# Altium schematic symbol library WE-PPTI.SchLib: 100 symbols (part 2 of 2)
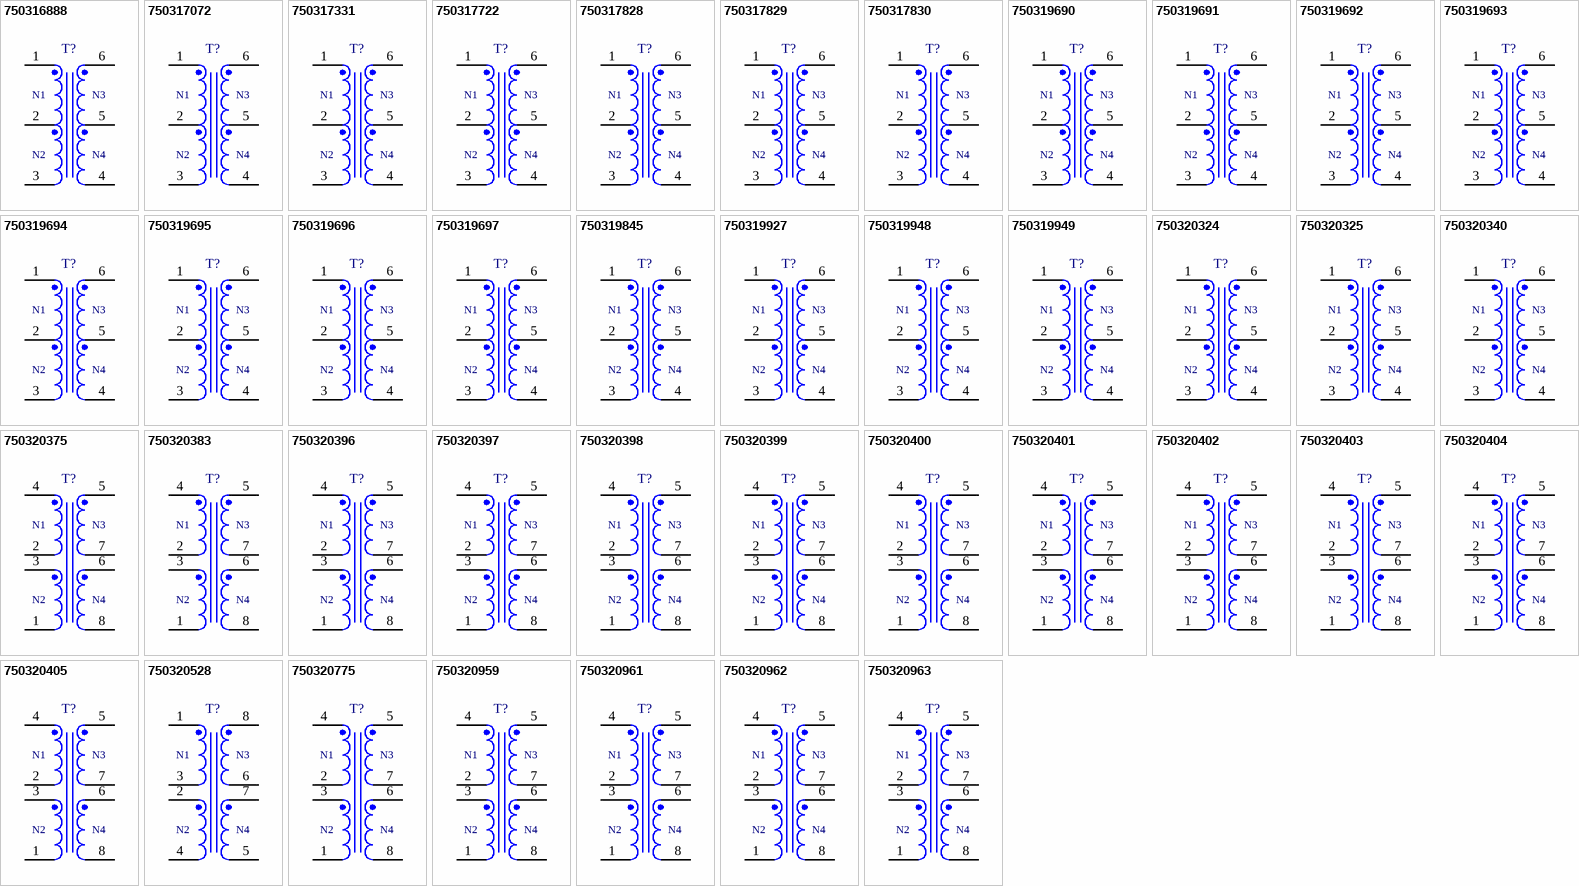
[diagram p3: symbols 750316888 to 750320963]

## 750319695
designator T?  (value not drawn)
WE-PPTI Push-Pull Transformer, SMT, size 1308, 24Vin, 12Vout, 0.5Aout; Manufacturer: Wurth Elektronik; Case/Size Code: 1308; Inductance: 600uH; Input Voltage: 24V (DC); Insulation Test Voltage: 2500V (AC); Output Voltage: 12V (DC); Switching Frequency: 400 - 600kHz; Turns Ratio: 1.75:1; Output Current: 0.5A; Type of Insulation: Functional; Voltage-Time: 36Vus; Manufacturer Part Number: 750319695; Category: Transformers For DC-DC Converter; Match Code: WE-PPTI; ComponentLink1Description: Website Link; ComponentLink1URL: https://www.we-online.com; ComponentLink2Description: Datasheet Link; ComponentLink2URL: https://www.we-online.com/components/products/datasheet/750319695; Mount: Surface Mount; Operating Temperature Min: -40degC; Operating Temperature Max: 125degC; Packaging: Tape and Reel; Length: 13.12mm; Width: 8.5mm; Height: 5.5mm
footprint WE-PPTI_1308
pins: 1, 2, 3, 4, 5, 6
text: N1; N3; N2; N4

## 750319696
designator T?  (value not drawn)
WE-PPTI Push-Pull Transformer, SMT, size 1308, 24Vin, 15Vout, 0.4Aout; Manufacturer: Wurth Elektronik; Case/Size Code: 1308; Inductance: 500uH; Input Voltage: 24V (DC); Insulation Test Voltage: 2500V (AC); Output Voltage: 15V (DC); Switching Frequency: 400 - 600kHz; Turns Ratio: 1.4:1; Output Current: 0.4A; Type of Insulation: Functional; Voltage-Time: 36Vus; Manufacturer Part Number: 750319696; Category: Transformers For DC-DC Converter; Match Code: WE-PPTI; ComponentLink1Description: Website Link; ComponentLink1URL: https://www.we-online.com; ComponentLink2Description: Datasheet Link; ComponentLink2URL: https://www.we-online.com/components/products/datasheet/750319696; Mount: Surface Mount; Operating Temperature Min: -40degC; Operating Temperature Max: 125degC; Packaging: Tape and Reel; Length: 13.12mm; Width: 8.5mm; Height: 5.5mm
footprint WE-PPTI_1308
pins: 1, 2, 3, 4, 5, 6
text: N1; N3; N2; N4

## 750319697
designator T?  (value not drawn)
WE-PPTI Push-Pull Transformer, SMT, size 1308, 24Vin, 24Vout, 0.25Aout; Manufacturer: Wurth Elektronik; Case/Size Code: 1308; Inductance: 500uH; Input Voltage: 24V (DC); Insulation Test Voltage: 2500V (AC); Switching Frequency: 400 - 600kHz; Turns Ratio: 1:1.07; Output Current: 0.25A; Type of Insulation: Functional; Voltage-Time: 36Vus; Manufacturer Part Number: 750319697; Category: Transformers For DC-DC Converter; Match Code: WE-PPTI; ComponentLink1Description: Website Link; ComponentLink1URL: https://www.we-online.com; ComponentLink2Description: Datasheet Link; ComponentLink2URL: https://www.we-online.com/components/products/datasheet/750319697; Mount: Surface Mount; Operating Temperature Min: -40degC; Operating Temperature Max: 125degC; Packaging: Tape and Reel; Length: 13.12mm; Width: 8.5mm; Height: 5.5mm; Output Voltage: 24V (DC)
footprint WE-PPTI_1308
pins: 1, 2, 3, 4, 5, 6
text: N1; N3; N2; N4

## 750319845
designator T?  (value not drawn)
WE-PPTI Push-Pull Transformer, SMT, size 1209, 3.3Vin, 5Vout, 0.65Aout; Manufacturer: Wurth Elektronik; Case/Size Code: 1209; Inductance: 340uH; Input Voltage: 3.3V (DC); Insulation Test Voltage: 5000V (AC); Output Voltage: 5V (DC); Switching Frequency: 250 - 550kHz; Turns Ratio: 1:1.56; Output Current: 0.65A; Type of Insulation: Reinforced; Voltage-Time: 11Vus; Manufacturer Part Number: 750319845; Category: Transformers For DC-DC Converter; Match Code: WE-PPTI; ComponentLink1Description: Website Link; ComponentLink1URL: https://www.we-online.com; ComponentLink2Description: Datasheet Link; ComponentLink2URL: https://www.we-online.com/components/products/datasheet/750319845; Mount: Surface Mount; Operating Temperature Min: -40degC; Operating Temperature Max: 125degC; Packaging: Tape and Reel; Length: 12.7mm; Width: 9.14mm; Height: 7.62mm
footprint WE-PPTI_1209
pins: 1, 2, 3, 4, 5, 6
text: N1; N3; N2; N4

## 750319927
designator T?  (value not drawn)
WE-PPTI Push-Pull Transformer, SMT, size 1512, 4.5Vin, 2.5Vout, 1.7Aout; Manufacturer: Wurth Elektronik; Case/Size Code: 1512; Inductance: 570uH; Input Voltage: 4.5V (DC); Insulation Test Voltage: 5000V (AC); Output Voltage: 2.5V (DC); Switching Frequency: 150 - 700kHz; Turns Ratio: 2:1; Output Current: 1.7A; Type of Insulation: Reinforced; Voltage-Time: 50Vus; Manufacturer Part Number: 750319927; Category: Transformers For DC-DC Converter; Match Code: WE-PPTI; ComponentLink1Description: Website Link; ComponentLink1URL: https://www.we-online.com; ComponentLink2Description: Datasheet Link; ComponentLink2URL: https://www.we-online.com/components/products/datasheet/750319927; Mount: Surface Mount; Operating Temperature Min: -40degC; Operating Temperature Max: 125degC; Packaging: Tape and Reel; Length: 15.41mm; Width: 12.32mm; Height: 11.89mm
footprint WE-PPTI_1512
pins: 1, 2, 3, 4, 5, 6
text: N1; N3; N2; N4

## 750319948
designator T?  (value not drawn)
WE-PPTI Push-Pull Transformer, SMT, size 1308, 24Vin, 30Vout, 0.2Aout; Manufacturer: Wurth Elektronik; Case/Size Code: 1308; Inductance: 600uH; Input Voltage: 24V (DC); Insulation Test Voltage: 2500V (AC); Output Voltage: 30V (DC); Switching Frequency: 400 - 600kHz; Turns Ratio: 1:1.36; Output Current: 0.2A; Type of Insulation: Functional; Voltage-Time: 36Vus; Manufacturer Part Number: 750319948; Category: Transformers For DC-DC Converter; Match Code: WE-PPTI; ComponentLink1Description: Website Link; ComponentLink1URL: https://www.we-online.com; ComponentLink2Description: Datasheet Link; ComponentLink2URL: https://www.we-online.com/components/products/datasheet/750319948; Mount: Surface Mount; Operating Temperature Min: -40degC; Operating Temperature Max: 125degC; Packaging: Tape and Reel; Length: 13.12mm; Width: 8.5mm; Height: 5.5mm
footprint WE-PPTI_1308
pins: 1, 2, 3, 4, 5, 6
text: N1; N3; N2; N4

## 750319949
designator T?  (value not drawn)
WE-PPTI Push-Pull Transformer, SMT, size 1308, 12Vin, 30Vout, 0.25Aout; Manufacturer: Wurth Elektronik; Case/Size Code: 1308; Inductance: 350uH; Input Voltage: 12V (DC); Insulation Test Voltage: 2500V (AC); Output Voltage: 30V (DC); Switching Frequency: 400 - 600kHz; Turns Ratio: 1:2.75; Output Current: 0.25A; Type of Insulation: Functional; Voltage-Time: 30Vus; Manufacturer Part Number: 750319949; Category: Transformers For DC-DC Converter; Match Code: WE-PPTI; ComponentLink1Description: Website Link; ComponentLink1URL: https://www.we-online.com; ComponentLink2Description: Datasheet Link; ComponentLink2URL: https://www.we-online.com/components/products/datasheet/750319949; Mount: Surface Mount; Operating Temperature Min: -40degC; Operating Temperature Max: 125degC; Packaging: Tape and Reel; Length: 13.12mm; Width: 8.5mm; Height: 5.5mm
footprint WE-PPTI_1308
pins: 1, 2, 3, 4, 5, 6
text: N1; N3; N2; N4

## 750320324
designator T?  (value not drawn)
WE-PPTI Push-Pull Transformer, SMT, size 1308, 12Vin, 3.3Vout, 1.1Aout; Manufacturer: Wurth Elektronik; Case/Size Code: 1308; Inductance: 450uH; Input Voltage: 12V (DC); Insulation Test Voltage: 2500V (AC); Output Voltage: 3.3V (DC); Switching Frequency: 400 - 600kHz; Turns Ratio: 2.4:1; Output Current: 1.1A; Type of Insulation: Functional; Voltage-Time: 30Vus; Manufacturer Part Number: 750320324; Category: Transformers For DC-DC Converter; Match Code: WE-PPTI; ComponentLink1Description: Website Link; ComponentLink1URL: https://www.we-online.com; ComponentLink2Description: Datasheet Link; ComponentLink2URL: https://www.we-online.com/components/products/datasheet/750320324; Mount: Surface Mount; Operating Temperature Min: -40degC; Operating Temperature Max: 125degC; Packaging: Tape and Reel; Length: 13.12mm; Width: 8.5mm; Height: 5.5mm
footprint WE-PPTI_1308
pins: 1, 2, 3, 4, 5, 6
text: N1; N3; N2; N4

## 750320325
designator T?  (value not drawn)
WE-PPTI Push-Pull Transformer, SMT, size 1308, 24Vin, 3.3Vout, 1Aout; Manufacturer: Wurth Elektronik; Case/Size Code: 1308; Inductance: 700uH; Input Voltage: 24V (DC); Insulation Test Voltage: 2500V (AC); Output Voltage: 3.3V (DC); Switching Frequency: 400 - 600kHz; Turns Ratio: 5.33:1; Output Current: 1A; Type of Insulation: Functional; Voltage-Time: 40Vus; Manufacturer Part Number: 750320325; Category: Transformers For DC-DC Converter; Match Code: WE-PPTI; ComponentLink1Description: Website Link; ComponentLink1URL: https://www.we-online.com; ComponentLink2Description: Datasheet Link; ComponentLink2URL: https://www.we-online.com/components/products/datasheet/750320325; Mount: Surface Mount; Operating Temperature Min: -40degC; Operating Temperature Max: 125degC; Packaging: Tape and Reel; Length: 13.12mm; Width: 8.5mm; Height: 5.5mm
footprint WE-PPTI_1308
pins: 1, 2, 3, 4, 5, 6
text: N1; N3; N2; N4

## 750320340
designator T?  (value not drawn)
WE-PPTI Push-Pull Transformer, SMT, size 1209, 5Vin, 17Vout, 0.25Aout; Manufacturer: Wurth Elektronik; Case/Size Code: 1209; Inductance: 200uH; Input Voltage: 5V (DC); Insulation Test Voltage: 6000V (AC); Output Voltage: 17V (DC); Switching Frequency: 220 - 700kHz; Turns Ratio: 1:3.5; Output Current: 0.25A; Type of Insulation: Reinforced; Voltage-Time: 16Vus; Manufacturer Part Number: 750320340; Category: Transformers For DC-DC Converter; Match Code: WE-PPTI; ComponentLink1Description: Website Link; ComponentLink1URL: https://www.we-online.com; ComponentLink2Description: Datasheet Link; ComponentLink2URL: https://www.we-online.com/components/products/datasheet/750320340; Mount: Surface Mount; Operating Temperature Min: -40degC; Operating Temperature Max: 125degC; Packaging: Tape and Reel; Length: 12.7mm; Width: 9.14mm; Height: 7.62mm
footprint WE-PPTI_1209
pins: 1, 2, 3, 4, 5, 6
text: N1; N3; N2; N4

## 750320375
designator T?  (value not drawn)
WE-PPTI Push-Pull Transformer, SMT, size EPX6, 24Vin, 15Vout, 0.7Aout; Manufacturer: Wurth Elektronik; Inductance: 200uH; Input Voltage: 24V (DC); Insulation Test Voltage: 2500V (AC); Output Voltage: 15V (DC); Switching Frequency: 300 - 1000kHz; Turns Ratio: 1.36:1; Output Current: 0.7A; Type of Insulation: Functional; Voltage-Time: 124Vus; Manufacturer Part Number: 750320375; Category: Transformers For DC-DC Converter; Match Code: WE-PPTI; ComponentLink1Description: Website Link; ComponentLink1URL: https://www.we-online.com; ComponentLink2Description: Datasheet Link; ComponentLink2URL: https://www.we-online.com/components/products/datasheet/750320375; Mount: Surface Mount; Operating Temperature Min: -40degC; Operating Temperature Max: 125degC; Packaging: Tape and Reel; Case/Size Code: EPX6; Length: 8.6mm; Width: 8.26mm; Height: 9.65mm
footprint WE-PPTI_EPX6
pins: 1, 2, 3, 4, 5, 6, 7, 8
text: N1; N3; N2; N4

## 750320383
designator T?  (value not drawn)
WE-PPTI Push-Pull Transformer, SMT, size EPX6, 24Vin, 30Vout, 0.35Aout; Manufacturer: Wurth Elektronik; Inductance: 750uH; Input Voltage: 24V (DC); Insulation Test Voltage: 2500V (AC); Output Voltage: 30V (DC); Switching Frequency: 200 - 1000kHz; Turns Ratio: 1:1.4; Output Current: 0.35A; Type of Insulation: Functional; Voltage-Time: 124Vus; Manufacturer Part Number: 750320383; Category: Transformers For DC-DC Converter; Match Code: WE-PPTI; ComponentLink1Description: Website Link; ComponentLink1URL: https://www.we-online.com; ComponentLink2Description: Datasheet Link; ComponentLink2URL: https://www.we-online.com/components/products/datasheet/750320383; Mount: Surface Mount; Operating Temperature Min: -40degC; Operating Temperature Max: 125degC; Packaging: Tape and Reel; Case/Size Code: EPX6; Length: 8.6mm; Width: 8.26mm; Height: 9.65mm
footprint WE-PPTI_EPX6
pins: 1, 2, 3, 4, 5, 6, 7, 8
text: N1; N3; N2; N4

## 750320396
designator T?  (value not drawn)
WE-PPTI Push-Pull Transformer, SMT, size EPX6, 12Vin, 3.3Vout, 1.4Aout; Manufacturer: Wurth Elektronik; Inductance: 350uH; Input Voltage: 12V (DC); Insulation Test Voltage: 2500V (AC); Output Voltage: 3.3V (DC); Switching Frequency: 200 - 1000kHz; Turns Ratio: 2.4:1; Output Current: 1.4A; Type of Insulation: Functional; Voltage-Time: 100Vus; Manufacturer Part Number: 750320396; Category: Transformers For DC-DC Converter; Match Code: WE-PPTI; ComponentLink1Description: Website Link; ComponentLink1URL: https://www.we-online.com; ComponentLink2Description: Datasheet Link; ComponentLink2URL: https://www.we-online.com/components/products/datasheet/750320396; Mount: Surface Mount; Operating Temperature Min: -40degC; Operating Temperature Max: 125degC; Packaging: Tape and Reel; Case/Size Code: EPX6; Length: 8.6mm; Width: 8.26mm; Height: 9.65mm
footprint WE-PPTI_EPX6
pins: 1, 2, 3, 4, 5, 6, 7, 8
text: N1; N3; N2; N4

## 750320397
designator T?  (value not drawn)
WE-PPTI Push-Pull Transformer, SMT, size EPX6, 12Vin, 5Vout, 1.3Aout; Manufacturer: Wurth Elektronik; Inductance: 350uH; Input Voltage: 12V (DC); Insulation Test Voltage: 2500V (AC); Output Voltage: 5V (DC); Switching Frequency: 200 - 1000kHz; Turns Ratio: 1.71:1; Output Current: 1.3A; Type of Insulation: Functional; Voltage-Time: 100Vus; Manufacturer Part Number: 750320397; Category: Transformers For DC-DC Converter; Match Code: WE-PPTI; ComponentLink1Description: Website Link; ComponentLink1URL: https://www.we-online.com; ComponentLink2Description: Datasheet Link; ComponentLink2URL: https://www.we-online.com/components/products/datasheet/750320397; Mount: Surface Mount; Operating Temperature Min: -40degC; Operating Temperature Max: 125degC; Packaging: Tape and Reel; Case/Size Code: EPX6; Length: 8.6mm; Width: 8.26mm; Height: 9.65mm
footprint WE-PPTI_EPX6
pins: 1, 2, 3, 4, 5, 6, 7, 8
text: N1; N3; N2; N4

## 750320398
designator T?  (value not drawn)
WE-PPTI Push-Pull Transformer, SMT, size EPX6, 12Vin, 12Vout, 0.75Aout; Manufacturer: Wurth Elektronik; Inductance: 200uH; Input Voltage: 12V (DC); Insulation Test Voltage: 2500V (AC); Switching Frequency: 200 - 1000kHz; Turns Ratio: 1:1.22; Output Current: 0.75A; Type of Insulation: Functional; Voltage-Time: 74Vus; Manufacturer Part Number: 750320398; Category: Transformers For DC-DC Converter; Match Code: WE-PPTI; ComponentLink1Description: Website Link; ComponentLink1URL: https://www.we-online.com; ComponentLink2Description: Datasheet Link; ComponentLink2URL: https://www.we-online.com/components/products/datasheet/750320398; Mount: Surface Mount; Operating Temperature Min: -40degC; Operating Temperature Max: 125degC; Packaging: Tape and Reel; Case/Size Code: EPX6; Length: 8.6mm; Width: 8.26mm; Height: 9.65mm; Output Voltage: 12V (DC)
footprint WE-PPTI_EPX6
pins: 1, 2, 3, 4, 5, 6, 7, 8
text: N1; N3; N2; N4

## 750320399
designator T?  (value not drawn)
WE-PPTI Push-Pull Transformer, SMT, size EPX6, 12Vin, 15Vout, 0.7Aout; Manufacturer: Wurth Elektronik; Inductance: 200uH; Input Voltage: 12V (DC); Insulation Test Voltage: 2500V (AC); Output Voltage: 15V (DC); Switching Frequency: 200 - 1000kHz; Turns Ratio: 1:1.44; Output Current: 0.7A; Type of Insulation: Functional; Voltage-Time: 74Vus; Manufacturer Part Number: 750320399; Category: Transformers For DC-DC Converter; Match Code: WE-PPTI; ComponentLink1Description: Website Link; ComponentLink1URL: https://www.we-online.com; ComponentLink2Description: Datasheet Link; ComponentLink2URL: https://www.we-online.com/components/products/datasheet/750320399; Mount: Surface Mount; Operating Temperature Min: -40degC; Operating Temperature Max: 125degC; Packaging: Tape and Reel; Case/Size Code: EPX6; Length: 8.6mm; Width: 8.26mm; Height: 9.65mm
footprint WE-PPTI_EPX6
pins: 1, 2, 3, 4, 5, 6, 7, 8
text: N1; N3; N2; N4

## 750320400
designator T?  (value not drawn)
WE-PPTI Push-Pull Transformer, SMT, size EPX6, 12Vin, 24Vout, 0.45Aout; Manufacturer: Wurth Elektronik; Inductance: 200uH; Input Voltage: 12V (DC); Insulation Test Voltage: 2500V (AC); Output Voltage: 24V (DC); Switching Frequency: 200 - 1000kHz; Turns Ratio: 1:2.33; Output Current: 0.45A; Type of Insulation: Functional; Voltage-Time: 74Vus; Manufacturer Part Number: 750320400; Category: Transformers For DC-DC Converter; Match Code: WE-PPTI; ComponentLink1Description: Website Link; ComponentLink1URL: https://www.we-online.com; ComponentLink2Description: Datasheet Link; ComponentLink2URL: https://www.we-online.com/components/products/datasheet/750320400; Mount: Surface Mount; Operating Temperature Min: -40degC; Operating Temperature Max: 125degC; Packaging: Tape and Reel; Case/Size Code: EPX6; Length: 8.6mm; Width: 8.26mm; Height: 9.65mm
footprint WE-PPTI_EPX6
pins: 1, 2, 3, 4, 5, 6, 7, 8
text: N1; N3; N2; N4

## 750320401
designator T?  (value not drawn)
WE-PPTI Push-Pull Transformer, SMT, size EPX6, 12Vin, 30Vout, 0.35Aout; Manufacturer: Wurth Elektronik; Inductance: 200uH; Input Voltage: 12V (DC); Insulation Test Voltage: 2500V (AC); Output Voltage: 30V (DC); Switching Frequency: 200 - 1000kHz; Turns Ratio: 1:2.89; Output Current: 0.35A; Type of Insulation: Functional; Voltage-Time: 74Vus; Manufacturer Part Number: 750320401; Category: Transformers For DC-DC Converter; Match Code: WE-PPTI; ComponentLink1Description: Website Link; ComponentLink1URL: https://www.we-online.com; ComponentLink2Description: Datasheet Link; ComponentLink2URL: https://www.we-online.com/components/products/datasheet/750320401; Mount: Surface Mount; Operating Temperature Min: -40degC; Operating Temperature Max: 125degC; Packaging: Tape and Reel; Case/Size Code: EPX6; Length: 8.6mm; Width: 8.26mm; Height: 9.65mm
footprint WE-PPTI_EPX6
pins: 1, 2, 3, 4, 5, 6, 7, 8
text: N1; N3; N2; N4

## 750320402
designator T?  (value not drawn)
WE-PPTI Push-Pull Transformer, SMT, size EPX6, 24Vin, 3.3Vout, 1.6Aout; Manufacturer: Wurth Elektronik; Inductance: 700uH; Input Voltage: 24V (DC); Insulation Test Voltage: 2500V (AC); Output Voltage: 3.3V (DC); Switching Frequency: 200 - 1000kHz; Turns Ratio: 5.33:1; Output Current: 1.6A; Type of Insulation: Functional; Voltage-Time: 130Vus; Manufacturer Part Number: 750320402; Category: Transformers For DC-DC Converter; Match Code: WE-PPTI; ComponentLink1Description: Website Link; ComponentLink1URL: https://www.we-online.com; ComponentLink2Description: Datasheet Link; ComponentLink2URL: https://www.we-online.com/components/products/datasheet/750320402; Mount: Surface Mount; Operating Temperature Min: -40degC; Operating Temperature Max: 125degC; Packaging: Tape and Reel; Case/Size Code: EPX6; Length: 8.6mm; Width: 8.26mm; Height: 9.65mm
footprint WE-PPTI_EPX6
pins: 1, 2, 3, 4, 5, 6, 7, 8
text: N1; N3; N2; N4

## 750320403
designator T?  (value not drawn)
WE-PPTI Push-Pull Transformer, SMT, size EPX6, 24Vin, 5Vout, 1.4Aout; Manufacturer: Wurth Elektronik; Inductance: 750uH; Input Voltage: 24V (DC); Insulation Test Voltage: 2500V (AC); Output Voltage: 5V (DC); Switching Frequency: 200 - 1000kHz; Turns Ratio: 3.6:1; Output Current: 1.4A; Type of Insulation: Functional; Voltage-Time: 150Vus; Manufacturer Part Number: 750320403; Category: Transformers For DC-DC Converter; Match Code: WE-PPTI; ComponentLink1Description: Website Link; ComponentLink1URL: https://www.we-online.com; ComponentLink2Description: Datasheet Link; ComponentLink2URL: https://www.we-online.com/components/products/datasheet/750320403; Mount: Surface Mount; Operating Temperature Min: -40degC; Operating Temperature Max: 125degC; Packaging: Tape and Reel; Case/Size Code: EPX6; Length: 8.6mm; Width: 8.26mm; Height: 9.65mm
footprint WE-PPTI_EPX6
pins: 1, 2, 3, 4, 5, 6, 7, 8
text: N1; N3; N2; N4

## 750320404
designator T?  (value not drawn)
WE-PPTI Push-Pull Transformer, SMT, size EPX6, 24Vin, 12Vout, 0.9Aout; Manufacturer: Wurth Elektronik; Inductance: 600uH; Input Voltage: 24V (DC); Insulation Test Voltage: 2500V (AC); Output Voltage: 12V (DC); Switching Frequency: 200 - 1000kHz; Turns Ratio: 1.78:1; Output Current: 0.9A; Type of Insulation: Functional; Voltage-Time: 132Vus; Manufacturer Part Number: 750320404; Category: Transformers For DC-DC Converter; Match Code: WE-PPTI; ComponentLink1Description: Website Link; ComponentLink1URL: https://www.we-online.com; ComponentLink2Description: Datasheet Link; ComponentLink2URL: https://www.we-online.com/components/products/datasheet/750320404; Mount: Surface Mount; Operating Temperature Min: -40degC; Operating Temperature Max: 125degC; Packaging: Tape and Reel; Case/Size Code: EPX6; Length: 8.6mm; Width: 8.26mm; Height: 9.65mm
footprint WE-PPTI_EPX6
pins: 1, 2, 3, 4, 5, 6, 7, 8
text: N1; N3; N2; N4

## 750320405
designator T?  (value not drawn)
WE-PPTI Push-Pull Transformer, SMT, size EPX6, 24Vin, 24Vout, 0.5Aout; Manufacturer: Wurth Elektronik; Inductance: 600uH; Input Voltage: 24V (DC); Insulation Test Voltage: 2500V (AC); Switching Frequency: 250 - 1200kHz; Turns Ratio: 1:1.13; Output Current: 0.5A; Type of Insulation: Functional; Voltage-Time: 124Vus; Manufacturer Part Number: 750320405; Category: Transformers For DC-DC Converter; Match Code: WE-PPTI; ComponentLink1Description: Website Link; ComponentLink1URL: https://www.we-online.com; ComponentLink2Description: Datasheet Link; ComponentLink2URL: https://www.we-online.com/components/products/datasheet/750320405; Mount: Surface Mount; Operating Temperature Min: -40degC; Operating Temperature Max: 125degC; Packaging: Tape and Reel; Case/Size Code: EPX6; Length: 8.6mm; Width: 8.26mm; Height: 9.65mm; Output Voltage: 24V (DC)
footprint WE-PPTI_EPX6
pins: 1, 2, 3, 4, 5, 6, 7, 8
text: N1; N3; N2; N4

## 750320528
designator T?  (value not drawn)
WE-PPTI Push-Pull Transformer, SMT, size EPX6, 15Vin, 19.5Vout, 0.7Aout; Manufacturer: Wurth Elektronik; Inductance: 165uH; Input Voltage: 15V (DC); Insulation Test Voltage: 2500V (AC); Output Voltage: 19.5V (DC); Switching Frequency: 250 - 600kHz; Turns Ratio: 1:1.38; Output Current: 0.7A; Type of Insulation: Functional; Voltage-Time: 50Vus; Manufacturer Part Number: 750320528; Category: Transformers For DC-DC Converter; Match Code: WE-PPTI; ComponentLink1Description: Website Link; ComponentLink1URL: https://www.we-online.com; ComponentLink2Description: Datasheet Link; ComponentLink2URL: https://www.we-online.com/components/products/datasheet/750320528; Mount: Surface Mount; Operating Temperature Min: -40degC; Operating Temperature Max: 125degC; Packaging: Tape and Reel; Case/Size Code: EPX6; Length: 8.6mm; Width: 8.26mm; Height: 9.65mm
footprint WE-PPTI_EPX6
pins: 1, 2, 3, 4, 5, 6, 7, 8
text: N1; N3; N2; N4

## 750320775
designator T?  (value not drawn)
WE-PPTI Push-Pull Transformer, SMT, size EP7 HV, 24Vin, 18Vout, 0.7Aout; Manufacturer: Wurth Elektronik; Case/Size Code: EP7 HV; Inductance: 300uH; Input Voltage: 24V (DC); Insulation Test Voltage: 4000V (AC); Output Voltage: 18V (DC); Switching Frequency: 400 - 1000kHz; Turns Ratio: 1.2:1; Output Current: 0.7A; Voltage-Time: 60Vus; Manufacturer Part Number: 750320775; Category: Transformers For DC-DC Converter; Match Code: WE-PPTI; ComponentLink1Description: Website Link; ComponentLink1URL: https://www.we-online.com; ComponentLink2Description: Datasheet Link; ComponentLink2URL: https://www.we-online.com/components/products/datasheet/750320775; Mount: Surface Mount; Operating Temperature Min: -40degC; Operating Temperature Max: 125degC; Packaging: Tape and Reel; Length: 11.46mm; Width: 13.4mm; Height: 11.94mm
footprint WE-PPTI_EP7 HV
pins: 1, 2, 3, 4, 5, 6, 7, 8
text: N1; N3; N2; N4

## 750320959
designator T?  (value not drawn)
WE-PPTI Push-Pull Transformer, SMT, size EP7 HV, 12Vin, 3.3Vout, 1Aout; Manufacturer: Wurth Elektronik; Case/Size Code: EP7 HV; Inductance: 150uH; Input Voltage: 12V (DC); Insulation Test Voltage: 4000V (AC); Output Voltage: 3.3V (DC); Switching Frequency: 400 - 1000kHz; Turns Ratio: 2.25:1; Output Current: 1A; Voltage-Time: 54Vus; Manufacturer Part Number: 750320959; Category: Transformers For DC-DC Converter; Match Code: WE-PPTI; ComponentLink1Description: Website Link; ComponentLink1URL: https://www.we-online.com; ComponentLink2Description: Datasheet Link; ComponentLink2URL: https://www.we-online.com/components/products/datasheet/750320959; Mount: Surface Mount; Operating Temperature Min: -40degC; Operating Temperature Max: 125degC; Packaging: Tape and Reel; Length: 11.46mm; Width: 13.4mm; Height: 11.94mm
footprint WE-PPTI_EP7 HV
pins: 1, 2, 3, 4, 5, 6, 7, 8
text: N1; N3; N2; N4

## 750320961
designator T?  (value not drawn)
WE-PPTI Push-Pull Transformer, SMT, size EP7 HV, 12Vin, 12Vout, 0.75Aout; Manufacturer: Wurth Elektronik; Case/Size Code: EP7 HV; Inductance: 100uH; Input Voltage: 12V (DC); Insulation Test Voltage: 4000V (AC); Switching Frequency: 400 - 1000kHz; Turns Ratio: 1:1.14; Output Current: 0.75A; Type of Insulation: Basic; Voltage-Time: 42Vus; Manufacturer Part Number: 750320961; Category: Transformers For DC-DC Converter; Match Code: WE-PPTI; ComponentLink1Description: Website Link; ComponentLink1URL: https://www.we-online.com; ComponentLink2Description: Datasheet Link; ComponentLink2URL: https://www.we-online.com/components/products/datasheet/750320961; Mount: Surface Mount; Operating Temperature Min: -40degC; Operating Temperature Max: 125degC; Packaging: Tape and Reel; Length: 11.46mm; Width: 13.44mm; Height: 11.94mm; Output Voltage: 12V (DC)
footprint WE-PPTI_EP7 HV
pins: 1, 2, 3, 4, 5, 6, 7, 8
text: N1; N3; N2; N4

## 750320962
designator T?  (value not drawn)
WE-PPTI Push-Pull Transformer, SMT, size EP7 HV, 12Vin, 15Vout, 0.7Aout; Manufacturer: Wurth Elektronik; Case/Size Code: EP7 HV; Inductance: 100uH; Input Voltage: 12V (DC); Insulation Test Voltage: 4000V (AC); Output Voltage: 15V (DC); Switching Frequency: 400 - 1000kHz; Turns Ratio: 1:1.43; Output Current: 0.7A; Voltage-Time: 42Vus; Manufacturer Part Number: 750320962; Category: Transformers For DC-DC Converter; Match Code: WE-PPTI; ComponentLink1Description: Website Link; ComponentLink1URL: https://www.we-online.com; ComponentLink2Description: Datasheet Link; ComponentLink2URL: https://www.we-online.com/components/products/datasheet/750320962; Mount: Surface Mount; Operating Temperature Min: -40degC; Operating Temperature Max: 125degC; Packaging: Tape and Reel; Length: 11.46mm; Width: 13.4mm; Height: 11.94mm
footprint WE-PPTI_EP7 HV
pins: 1, 2, 3, 4, 5, 6, 7, 8
text: N1; N3; N2; N4

## 750320963
designator T?  (value not drawn)
WE-PPTI Push-Pull Transformer, SMT, size EP7 HV, 12Vin, 18Vout, 0.65Aout; Manufacturer: Wurth Elektronik; Case/Size Code: EP7 HV; Inductance: 100uH; Input Voltage: 12V (DC); Insulation Test Voltage: 4000V (AC); Output Voltage: 18V (DC); Switching Frequency: 400 - 1000kHz; Turns Ratio: 1:1.71; Output Current: 0.65A; Voltage-Time: 42Vus; Manufacturer Part Number: 750320963; Category: Transformers For DC-DC Converter; Match Code: WE-PPTI; ComponentLink1Description: Website Link; ComponentLink1URL: https://www.we-online.com; ComponentLink2Description: Datasheet Link; ComponentLink2URL: https://www.we-online.com/components/products/datasheet/750320963; Mount: Surface Mount; Operating Temperature Min: -40degC; Operating Temperature Max: 125degC; Packaging: Tape and Reel; Length: 11.64mm; Width: 13.4mm; Height: 11.94mm
footprint WE-PPTI_EP7 HV
pins: 1, 2, 3, 4, 5, 6, 7, 8
text: N1; N3; N2; N4

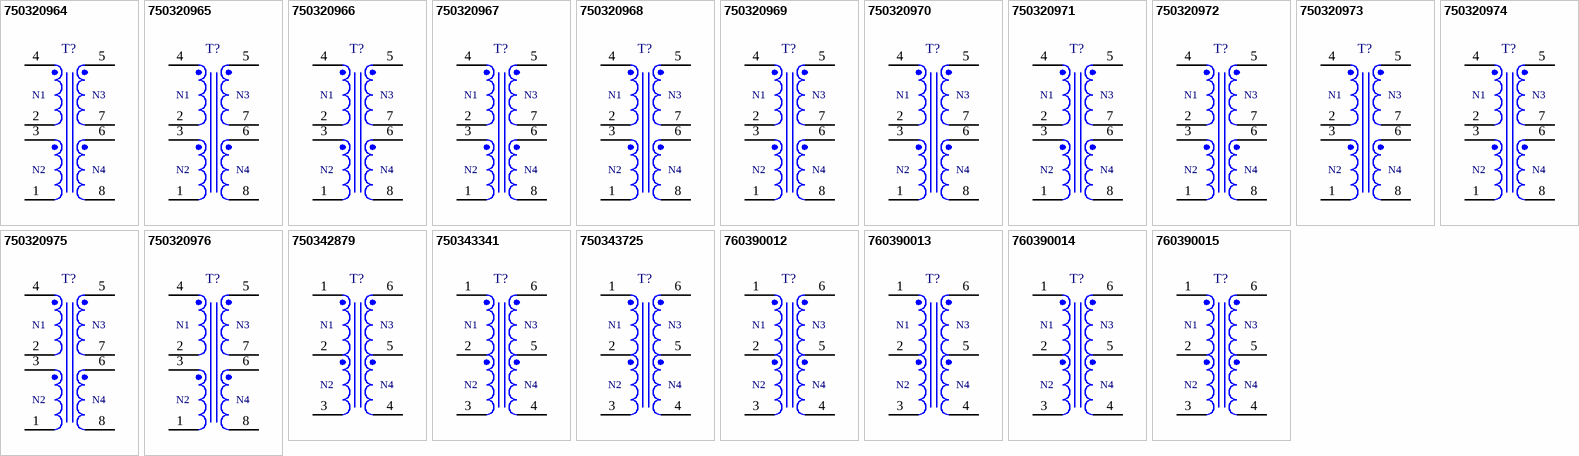
[diagram p2: symbols 750320964 to 760390015]

## 750320964
designator T?  (value not drawn)
WE-PPTI Push-Pull Transformer, SMT, size EP7 HV, 12Vin, 21Vout, 0.45Aout; Manufacturer: Wurth Elektronik; Case/Size Code: EP7 HV; Inductance: 100uH; Input Voltage: 12V (DC); Insulation Test Voltage: 4000V (AC); Output Voltage: 21V (DC); Switching Frequency: 400 - 1000kHz; Turns Ratio: 1:2; Output Current: 0.45A; Voltage-Time: 42Vus; Manufacturer Part Number: 750320964; Category: Transformers For DC-DC Converter; Match Code: WE-PPTI; ComponentLink1Description: Website Link; ComponentLink1URL: https://www.we-online.com; ComponentLink2Description: Datasheet Link; ComponentLink2URL: https://www.we-online.com/components/products/datasheet/750320964; Mount: Surface Mount; Operating Temperature Min: -40degC; Operating Temperature Max: 125degC; Packaging: Tape and Reel; Length: 11.46mm; Width: 13.4mm; Height: 11.94mm
footprint WE-PPTI_EP7 HV
pins: 1, 2, 3, 4, 5, 6, 7, 8
text: N1; N3; N2; N4

## 750320965
designator T?  (value not drawn)
WE-PPTI Push-Pull Transformer, SMT, size EP7 HV, 12Vin, 24Vout, 0.45Aout; Manufacturer: Wurth Elektronik; Case/Size Code: EP7 HV; Inductance: 100uH; Input Voltage: 12V (DC); Insulation Test Voltage: 4000V (AC); Output Voltage: 24V (DC); Switching Frequency: 400 - 1000kHz; Turns Ratio: 1:2.29; Output Current: 0.45A; Voltage-Time: 42Vus; Manufacturer Part Number: 750320965; Category: Transformers For DC-DC Converter; Match Code: WE-PPTI; ComponentLink1Description: Website Link; ComponentLink1URL: https://www.we-online.com; ComponentLink2Description: Datasheet Link; ComponentLink2URL: https://www.we-online.com/components/products/datasheet/750320965; Mount: Surface Mount; Operating Temperature Min: -40degC; Operating Temperature Max: 125degC; Packaging: Tape and Reel; Length: 11.46mm; Width: 13.4mm; Height: 11.94mm
footprint WE-PPTI_EP7 HV
pins: 1, 2, 3, 4, 5, 6, 7, 8
text: N1; N3; N2; N4

## 750320966
designator T?  (value not drawn)
WE-PPTI Push-Pull Transformer, SMT, size EP7 HV, 12Vin, 27Vout, 0.45Aout; Manufacturer: Wurth Elektronik; Case/Size Code: EP7 HV; Inductance: 80uH; Input Voltage: 12V (DC); Insulation Test Voltage: 4000V (AC); Output Voltage: 27V (DC); Switching Frequency: 400 - 1000kHz; Turns Ratio: 1:2.5; Output Current: 0.45A; Voltage-Time: 36Vus; Manufacturer Part Number: 750320966; Category: Transformers For DC-DC Converter; Match Code: WE-PPTI; ComponentLink1Description: Website Link; ComponentLink1URL: https://www.we-online.com; ComponentLink2Description: Datasheet Link; ComponentLink2URL: https://www.we-online.com/components/products/datasheet/750320966; Mount: Surface Mount; Operating Temperature Min: -40degC; Operating Temperature Max: 125degC; Packaging: Tape and Reel; Length: 11.46mm; Width: 13.4mm; Height: 11.94mm
footprint WE-PPTI_EP7 HV
pins: 1, 2, 3, 4, 5, 6, 7, 8
text: N1; N3; N2; N4

## 750320967
designator T?  (value not drawn)
WE-PPTI Push-Pull Transformer, SMT, size EP7 HV, 12Vin, 30Vout, 0.35Aout; Manufacturer: Wurth Elektronik; Case/Size Code: EP7 HV; Inductance: 100uH; Input Voltage: 12V (DC); Insulation Test Voltage: 4000V (AC); Output Voltage: 30V (DC); Switching Frequency: 400 - 1000kHz; Turns Ratio: 1:2.71; Output Current: 0.35A; Voltage-Time: 42Vus; Manufacturer Part Number: 750320967; Category: Transformers For DC-DC Converter; Match Code: WE-PPTI; ComponentLink1Description: Website Link; ComponentLink1URL: https://www.we-online.com; ComponentLink2Description: Datasheet Link; ComponentLink2URL: https://www.we-online.com/components/products/datasheet/750320967; Mount: Surface Mount; Operating Temperature Min: -40degC; Operating Temperature Max: 125degC; Packaging: Tape and Reel; Length: 11.46mm; Width: 13.4mm; Height: 11.94mm
footprint WE-PPTI_EP7 HV
pins: 1, 2, 3, 4, 5, 6, 7, 8
text: N1; N3; N2; N4

## 750320968
designator T?  (value not drawn)
WE-PPTI Push-Pull Transformer, SMT, size EP7 HV, 24Vin, 3.3Vout, 1.3Aout; Manufacturer: Wurth Elektronik; Case/Size Code: EP7 HV; Inductance: 370uH; Input Voltage: 24V (DC); Insulation Test Voltage: 4000V (AC); Output Voltage: 3.3V (DC); Switching Frequency: 400 - 1000kHz; Turns Ratio: 4.67:1; Output Current: 1.3A; Type of Insulation: Basic; Voltage-Time: 86Vus; Manufacturer Part Number: 750320968; Category: Transformers For DC-DC Converter; Match Code: WE-PPTI; ComponentLink1Description: Website Link; ComponentLink1URL: https://www.we-online.com; ComponentLink2Description: Datasheet Link; ComponentLink2URL: https://www.we-online.com/components/products/datasheet/750320968; Mount: Surface Mount; Operating Temperature Min: -40degC; Operating Temperature Max: 125degC; Packaging: Tape and Reel; Length: 11.46mm; Width: 13.4mm; Height: 11.94mm
footprint WE-PPTI_EP7 HV
pins: 1, 2, 3, 4, 5, 6, 7, 8
text: N1; N3; N2; N4

## 750320969
designator T?  (value not drawn)
WE-PPTI Push-Pull Transformer, SMT, size EP7 HV, 24Vin, 5Vout, 1.2Aout; Manufacturer: Wurth Elektronik; Case/Size Code: EP7 HV; Inductance: 490uH; Input Voltage: 24V (DC); Insulation Test Voltage: 4000V (AC); Output Voltage: 5V (DC); Switching Frequency: 400 - 1000kHz; Turns Ratio: 3.75:1; Output Current: 1.2A; Voltage-Time: 92Vus; Manufacturer Part Number: 750320969; Category: Transformers For DC-DC Converter; Match Code: WE-PPTI; ComponentLink1Description: Website Link; ComponentLink1URL: https://www.we-online.com; ComponentLink2Description: Datasheet Link; ComponentLink2URL: https://www.we-online.com/components/products/datasheet/750320969; Mount: Surface Mount; Operating Temperature Min: -40degC; Operating Temperature Max: 125degC; Packaging: Tape and Reel; Length: 11.46mm; Width: 13.4mm; Height: 11.94mm
footprint WE-PPTI_EP7 HV
pins: 1, 2, 3, 4, 5, 6, 7, 8
text: N1; N3; N2; N4

## 750320970
designator T?  (value not drawn)
WE-PPTI Push-Pull Transformer, SMT, size EP7 HV, 24Vin, 12Vout, 0.85Aout; Manufacturer: Wurth Elektronik; Case/Size Code: EP7 HV; Inductance: 430uH; Input Voltage: 24V (DC); Insulation Test Voltage: 4000V (AC); Output Voltage: 12V (DC); Switching Frequency: 400 - 1000kHz; Turns Ratio: 1.75:1; Output Current: 0.85A; Type of Insulation: Basic/Reinforced; Voltage-Time: 86Vus; Manufacturer Part Number: 750320970; Category: Transformers For DC-DC Converter; Match Code: WE-PPTI; ComponentLink1Description: Website Link; ComponentLink1URL: https://www.we-online.com; ComponentLink2Description: Datasheet Link; ComponentLink2URL: https://www.we-online.com/components/products/datasheet/750320970; Mount: Surface Mount; Operating Temperature Min: -40degC; Operating Temperature Max: 125degC; Packaging: Tape and Reel; Length: 11.46mm; Width: 13.4mm; Height: 11.94mm
footprint WE-PPTI_EP7 HV
pins: 1, 2, 3, 4, 5, 6, 7, 8
text: N1; N3; N2; N4

## 750320971
designator T?  (value not drawn)
WE-PPTI Push-Pull Transformer, SMT, size EP7 HV, 24Vin, 15Vout, 0.8Aout; Manufacturer: Wurth Elektronik; Case/Size Code: EP7 HV; Inductance: 430uH; Input Voltage: 24V (DC); Insulation Test Voltage: 4000V (AC); Output Voltage: 15V (DC); Switching Frequency: 400 - 1000kHz; Turns Ratio: 1.4:1; Output Current: 0.8A; Voltage-Time: 86Vus; Manufacturer Part Number: 750320971; Category: Transformers For DC-DC Converter; Match Code: WE-PPTI; ComponentLink1Description: Website Link; ComponentLink1URL: https://www.we-online.com; ComponentLink2Description: Datasheet Link; ComponentLink2URL: https://www.we-online.com/components/products/datasheet/750320971; Mount: Surface Mount; Operating Temperature Min: -40degC; Operating Temperature Max: 125degC; Packaging: Tape and Reel; Length: 11.46mm; Width: 13.4mm; Height: 11.94mm
footprint WE-PPTI_EP7 HV
pins: 1, 2, 3, 4, 5, 6, 7, 8
text: N1; N3; N2; N4

## 750320972
designator T?  (value not drawn)
WE-PPTI Push-Pull Transformer, SMT, size EP7 HV, 24Vin, 19Vout, 0.6Aout; Manufacturer: Wurth Elektronik; Case/Size Code: EP7 HV; Inductance: 420uH; Input Voltage: 24V (DC); Insulation Test Voltage: 4000V (AC); Output Voltage: 19V (DC); Switching Frequency: 400 - 1000kHz; Turns Ratio: 1.17:1; Output Current: 0.6A; Voltage-Time: 86Vus; Manufacturer Part Number: 750320972; Category: Transformers For DC-DC Converter; Match Code: WE-PPTI; ComponentLink1Description: Website Link; ComponentLink1URL: https://www.we-online.com; ComponentLink2Description: Datasheet Link; ComponentLink2URL: https://www.we-online.com/components/products/datasheet/750320972; Mount: Surface Mount; Operating Temperature Min: -40degC; Operating Temperature Max: 125degC; Packaging: Tape and Reel; Length: 11.46mm; Width: 13.4mm; Height: 11.94mm
footprint WE-PPTI_EP7 HV
pins: 1, 2, 3, 4, 5, 6, 7, 8
text: N1; N3; N2; N4

## 750320973
designator T?  (value not drawn)
WE-PPTI Push-Pull Transformer, SMT, size EP7 HV, 24Vin, 21Vout, 0.6Aout; Manufacturer: Wurth Elektronik; Case/Size Code: EP7 HV; Inductance: 315uH; Input Voltage: 24V (DC); Insulation Test Voltage: 4000V (AC); Output Voltage: 21V (DC); Switching Frequency: 400 - 1000kHz; Turns Ratio: 1:1; Output Current: 0.6A; Voltage-Time: 74Vus; Manufacturer Part Number: 750320973; Category: Transformers For DC-DC Converter; Match Code: WE-PPTI; ComponentLink1Description: Website Link; ComponentLink1URL: https://www.we-online.com; ComponentLink2Description: Datasheet Link; ComponentLink2URL: https://www.we-online.com/components/products/datasheet/750320973; Mount: Surface Mount; Operating Temperature Min: -40degC; Operating Temperature Max: 125degC; Packaging: Tape and Reel; Length: 11.46mm; Width: 13.4mm; Height: 11.94mm
footprint WE-PPTI_EP7 HV
pins: 1, 2, 3, 4, 5, 6, 7, 8
text: N1; N3; N2; N4

## 750320974
designator T?  (value not drawn)
WE-PPTI Push-Pull Transformer, SMT, size EP7 HV, 24Vin, 24Vout, 0.55Aout; Manufacturer: Wurth Elektronik; Case/Size Code: EP7 HV; Inductance: 430uH; Input Voltage: 24V (DC); Insulation Test Voltage: 4000V (AC); Switching Frequency: 400 - 1000kHz; Turns Ratio: 1:1.07; Output Current: 0.55A; Voltage-Time: 86Vus; Manufacturer Part Number: 750320974; Category: Transformers For DC-DC Converter; Match Code: WE-PPTI; ComponentLink1Description: Website Link; ComponentLink1URL: https://www.we-online.com; ComponentLink2Description: Datasheet Link; ComponentLink2URL: https://www.we-online.com/components/products/datasheet/750320974; Mount: Surface Mount; Operating Temperature Min: -40degC; Operating Temperature Max: 125degC; Packaging: Tape and Reel; Length: 11.46mm; Width: 13.4mm; Height: 11.94mm; Output Voltage: 24V (DC)
footprint WE-PPTI_EP7 HV
pins: 1, 2, 3, 4, 5, 6, 7, 8
text: N1; N3; N2; N4

## 750320975
designator T?  (value not drawn)
WE-PPTI Push-Pull Transformer, SMT, size EP7 HV, 24Vin, 27Vout, 0.5Aout; Manufacturer: Wurth Elektronik; Case/Size Code: EP7 HV; Inductance: 315uH; Input Voltage: 24V (DC); Insulation Test Voltage: 4000V (AC); Output Voltage: 27V (DC); Switching Frequency: 400 - 1000kHz; Turns Ratio: 1:1.25; Output Current: 0.5A; Voltage-Time: 74Vus; Manufacturer Part Number: 750320975; Category: Transformers For DC-DC Converter; Match Code: WE-PPTI; ComponentLink1Description: Website Link; ComponentLink1URL: https://www.we-online.com; ComponentLink2Description: Datasheet Link; ComponentLink2URL: https://www.we-online.com/components/products/datasheet/750320975; Mount: Surface Mount; Operating Temperature Min: -40degC; Operating Temperature Max: 125degC; Packaging: Tape and Reel; Length: 11.46mm; Width: 13.4mm; Height: 11.94mm
footprint WE-PPTI_EP7 HV
pins: 1, 2, 3, 4, 5, 6, 7, 8
text: N1; N3; N2; N4

## 750320976
designator T?  (value not drawn)
WE-PPTI Push-Pull Transformer, SMT, size EP7 HV, 24Vin, 30Vout, 0.45Aout; Manufacturer: Wurth Elektronik; Case/Size Code: EP7 HV; Inductance: 300uH; Input Voltage: 24V (DC); Insulation Test Voltage: 4000V (AC); Output Voltage: 30V (DC); Switching Frequency: 400 - 1000kHz; Turns Ratio: 1:1.33; Output Current: 0.45A; Type of Insulation: Basic; Voltage-Time: 74Vus; Manufacturer Part Number: 750320976; Category: Transformers For DC-DC Converter; Match Code: WE-PPTI; ComponentLink1Description: Website Link; ComponentLink1URL: https://www.we-online.com; ComponentLink2Description: Datasheet Link; ComponentLink2URL: https://www.we-online.com/components/products/datasheet/750320976; Mount: Surface Mount; Operating Temperature Min: -40degC; Operating Temperature Max: 125degC; Packaging: Tape and Reel; Length: 11.46mm; Width: 13.4mm; Height: 11.94mm
footprint WE-PPTI_EP7 HV
pins: 1, 2, 3, 4, 5, 6, 7, 8
text: N1; N3; N2; N4

## 750342879
designator T?  (value not drawn)
WE-PPTI Push-Pull Transformer, SMT, size 1209, 5Vin, 17Vout, 0.25Aout; Manufacturer: Wurth Elektronik; Case/Size Code: 1209; Inductance: 200uH; Input Voltage: 5V (DC); Insulation Test Voltage: 5000V (AC); Output Voltage: 17V (DC); Switching Frequency: 420 - 700kHz; Turns Ratio: 1:3.5; Output Current: 0.25A; Type of Insulation: Reinforced; Voltage-Time: 9Vus; Manufacturer Part Number: 750342879; Category: Transformers For DC-DC Converter; Match Code: WE-PPTI; ComponentLink1Description: Website Link; ComponentLink1URL: https://www.we-online.com; ComponentLink2Description: Datasheet Link; ComponentLink2URL: https://www.we-online.com/components/products/datasheet/750342879; Mount: Surface Mount; Operating Temperature Min: -40degC; Operating Temperature Max: 125degC; Packaging: Tape and Reel; Length: 12.7mm; Width: 9.14mm; Height: 7.62mm
footprint WE-PPTI_1209
pins: 1, 2, 3, 4, 5, 6
text: N1; N3; N2; N4

## 750343341
designator T?  (value not drawn)
WE-PPTI Push-Pull Transformer, SMT, size 1209, 5Vin, 12.5Vout, 0.35Aout; Manufacturer: Wurth Elektronik; Case/Size Code: 1209; Inductance: 152uH; Input Voltage: 5V (DC); Insulation Test Voltage: 5000V (AC); Output Voltage: 12.5V (DC); Switching Frequency: 400 - 700kHz; Turns Ratio: 1:2.6; Output Current: 0.35A; Type of Insulation: Reinforced; Voltage-Time: 7.8Vus; Manufacturer Part Number: 750343341; Category: Transformers For DC-DC Converter; Match Code: WE-PPTI; ComponentLink1Description: Website Link; ComponentLink1URL: https://www.we-online.com; ComponentLink2Description: Datasheet Link; ComponentLink2URL: https://www.we-online.com/components/products/datasheet/750343341; Mount: Surface Mount; Operating Temperature Min: -40degC; Operating Temperature Max: 125degC; Packaging: Tape and Reel; Length: 12.7mm; Width: 9.14mm; Height: 7.62mm
footprint WE-PPTI_1209
pins: 1, 2, 3, 4, 5, 6
text: N1; N3; N2; N4

## 750343725
designator T?  (value not drawn)
WE-PPTI Push-Pull Transformer, SMT, size 1209, 5Vin, 19.5Vout, 0.25Aout; Manufacturer: Wurth Elektronik; Case/Size Code: 1209; Inductance: 250uH; Input Voltage: 5V (DC); Insulation Test Voltage: 5000V (AC); Output Voltage: 19.5V (DC); Switching Frequency: 420 - 700kHz; Turns Ratio: 1:3.9; Output Current: 0.25A; Type of Insulation: Reinforced; Voltage-Time: 9Vus; Manufacturer Part Number: 750343725; Category: Transformers For DC-DC Converter; Match Code: WE-PPTI; ComponentLink1Description: Website Link; ComponentLink1URL: https://www.we-online.com; ComponentLink2Description: Datasheet Link; ComponentLink2URL: https://www.we-online.com/components/products/datasheet/750343725; Mount: Surface Mount; Operating Temperature Min: -40degC; Operating Temperature Max: 125degC; Packaging: Tape and Reel; Length: 12.7mm; Width: 9.14mm; Height: 7.62mm
footprint WE-PPTI_1209
pins: 1, 2, 3, 4, 5, 6
text: N1; N3; N2; N4

## 760390012
designator T?  (value not drawn)
WE-PPTI Push-Pull Transformer, SMT, size 1006, 5Vin, 5Vout, 0.75Aout; Manufacturer: Wurth Elektronik; Case/Size Code: 1006; Inductance: 475uH; Input Voltage: 5V (DC); Insulation Test Voltage: 2500V (AC); Switching Frequency: 300 - 620kHz; Turns Ratio: 1:1.1; Output Current: 0.75A; Type of Insulation: Functional; Voltage-Time: 11Vus; Manufacturer Part Number: 760390012; Category: Transformers For DC-DC Converter; Match Code: WE-PPTI; ComponentLink1Description: Website Link; ComponentLink1URL: https://www.we-online.com; ComponentLink2Description: Datasheet Link; ComponentLink2URL: https://www.we-online.com/components/products/datasheet/760390012; Mount: Surface Mount; Operating Temperature Min: -40degC; Operating Temperature Max: 125degC; Packaging: Tape and Reel; Length: 10.2mm; Width: 6.73mm; Height: 4.19mm; Output Voltage: 5V (DC)
footprint WE-PPTI_1006_L10.2W6.73H4.19
pins: 1, 2, 3, 4, 5, 6
text: N1; N3; N2; N4

## 760390013
designator T?  (value not drawn)
WE-PPTI Push-Pull Transformer, SMT, size 1006, 3.3Vin, 5Vout, 0.5Aout; Manufacturer: Wurth Elektronik; Case/Size Code: 1006; Inductance: 475uH; Input Voltage: 3.3V (DC); Insulation Test Voltage: 2500V (AC); Output Voltage: 5V (DC); Switching Frequency: 250 - 550kHz; Turns Ratio: 1:1.7; Output Current: 0.5A; Type of Insulation: Functional; Voltage-Time: 11Vus; Manufacturer Part Number: 760390013; Category: Transformers For DC-DC Converter; Match Code: WE-PPTI; ComponentLink1Description: Website Link; ComponentLink1URL: https://www.we-online.com; ComponentLink2Description: Datasheet Link; ComponentLink2URL: https://www.we-online.com/components/products/datasheet/760390013; Mount: Surface Mount; Operating Temperature Min: -40degC; Operating Temperature Max: 125degC; Packaging: Tape and Reel; Length: 10.2mm; Width: 6.73mm; Height: 4.19mm
footprint WE-PPTI_1006_L10.2W6.73H4.19
pins: 1, 2, 3, 4, 5, 6
text: N1; N3; N2; N4

## 760390014
designator T?  (value not drawn)
WE-PPTI Push-Pull Transformer, SMT, size 1006, 5Vin, 5Vout, 0.6Aout; Manufacturer: Wurth Elektronik; Case/Size Code: 1006; Inductance: 475uH; Input Voltage: 5V (DC); Insulation Test Voltage: 2500V (AC); Switching Frequency: 300 - 620kHz; Turns Ratio: 1:1.3; Output Current: 0.6A; Type of Insulation: Functional; Voltage-Time: 11Vus; Manufacturer Part Number: 760390014; Category: Transformers For DC-DC Converter; Match Code: WE-PPTI; ComponentLink1Description: Website Link; ComponentLink1URL: https://www.we-online.com; ComponentLink2Description: Datasheet Link; ComponentLink2URL: https://www.we-online.com/components/products/datasheet/760390014; Mount: Surface Mount; Operating Temperature Min: -40degC; Operating Temperature Max: 125degC; Packaging: Tape and Reel; Length: 10.2mm; Width: 6.73mm; Height: 4.19mm; Output Voltage: 5V (DC)
footprint WE-PPTI_1006_L10.2W6.73H4.19
pins: 1, 2, 3, 4, 5, 6
text: N1; N3; N2; N4

## 760390015
designator T?  (value not drawn)
WE-PPTI Push-Pull Transformer, SMT, size 1006, 3.3Vin, 5Vout, 0.45Aout; Manufacturer: Wurth Elektronik; Case/Size Code: 1006; Inductance: 475uH; Input Voltage: 3.3V (DC); Insulation Test Voltage: 2500V (AC); Output Voltage: 5V (DC); Switching Frequency: 250 - 550kHz; Turns Ratio: 1:2; Output Current: 0.45A; Type of Insulation: Functional; Voltage-Time: 11Vus; Manufacturer Part Number: 760390015; Category: Transformers For DC-DC Converter; Match Code: WE-PPTI; ComponentLink1Description: Website Link; ComponentLink1URL: https://www.we-online.com; ComponentLink2Description: Datasheet Link; ComponentLink2URL: https://www.we-online.com/components/products/datasheet/760390015; Mount: Surface Mount; Operating Temperature Min: -40degC; Operating Temperature Max: 125degC; Packaging: Tape and Reel; Length: 10.2mm; Width: 6.73mm; Height: 4.19mm
footprint WE-PPTI_1006_L10.2W6.73H4.19
pins: 1, 2, 3, 4, 5, 6
text: N1; N3; N2; N4